# Altium integrated library WirelessCharger.IntLib: 31 symbols
Pins are listed as number, name and electrical type; pins without a type are passive.

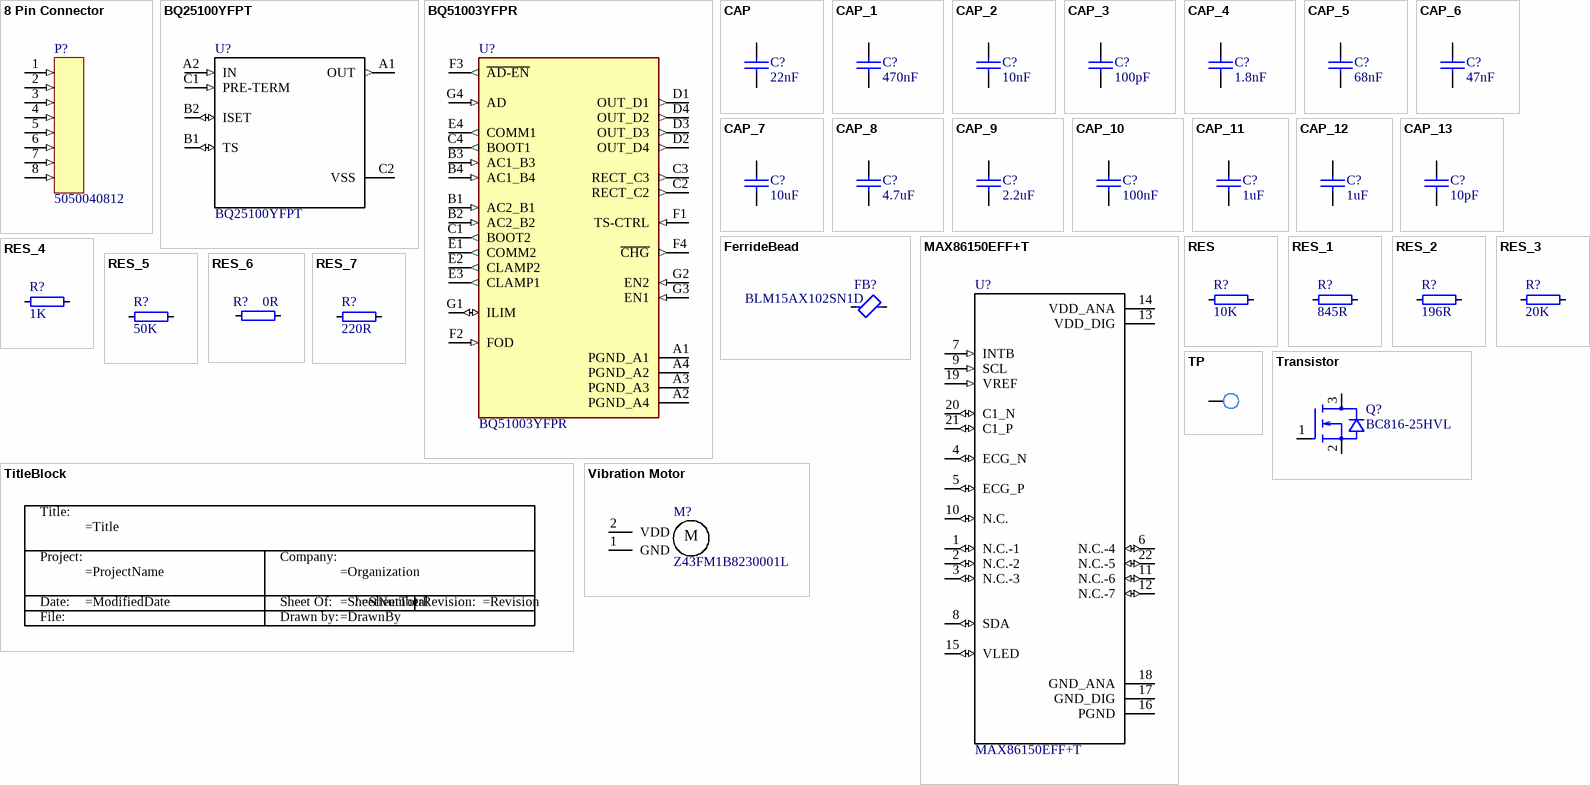
[diagram p0: symbols 8 Pin Connector to Vibration Motor]

## 8 Pin Connector
designator P?, comment 5050040812
Generic 8 pin connector, see footprint for MPN
footprint YCP-TWD12ACX-E8FPCYX-000X
footprint YCP-TWD12ACX-08FPEZX-000X
footprint B08B-JWPF-SK-R (JST 2x5 Automotive)
footprint 5050040812 (0.8mm height mated board to board connector)
pins: 1 (in), 2 (in), 3 (in), 4 (in), 5 (in), 6 (in), 7 (in), 8 (in)

## BQ25100YFPT
designator U?
Standalone 1-cell, 250-mA linear battery charger with 4.2-V charge voltage and prog. pre-charge 6-DSBGA 0 to 125; MF: Texas Instruments; DigiKey-Purchase-URL: https://snapeda.com/shop?store=DigiKey&id=251118; Mouser-Purchase-URL: https://snapeda.com/shop?store=Mouser&id=251118; SnapEDA_Link: https://www.snapeda.com/parts/BQ25100YFPT/Texas%20Instruments/view-part/251118/?ref=snap; Digi-Key_Part_Number: 296-38373-1-ND; MP: BQ25100YFPT; Value: *; Texas_Instruments-Purchase-URL: https://snapeda.com/shop?store=Texas+Instruments&id=251118; Package: DSBGA-6 Texas Instruments
footprint BQ25100YFP (Liion Charger)
pins: A1 OUT (out), A2 IN (in), B1 TS (io), B2 ISET (io), C1 PRE-TERM (in), C2 VSS (power)

## BQ51003YFPR
designator U?
BQ51003 Wireless power Receiver 28-DSBGA -40 to 85; Package: None; Value: *; MP: BQ51003YFPR; Availability: Unavailable; Price: None
footprint BQ51003
pins: A1 PGND_A1 (power), A2 PGND_A4 (power), A3 PGND_A3 (power), A4 PGND_A2 (power), B1 AC2_B1 (in), B2 AC2_B2 (in), B3 AC1_B3 (in), B4 AC1_B4 (in), C1 BOOT2 (out), C2 RECT_C2 (out), C3 RECT_C3 (out), C4 BOOT1 (out), D1 OUT_D1 (out), D2 OUT_D4 (out), D3 OUT_D3 (out), D4 OUT_D2 (out), E1 COMM2 (out), E2 CLAMP2 (out), E3 CLAMP1 (out), E4 COMM1 (out), F1 TS-CTRL (in), F2 FOD (in), F3 ~{AD-EN} (out), F4 ~{CHG} (out), G1 ILIM (io), G2 EN2 (in), G3 EN1 (in), G4 AD (in)

## CAP
designator C?, comment 22nF
Capacitor; Value: 100pF; Published: 8-Jun-2000; Revision: July-2002: Re-released for DXP Platform.; Publisher: Altium Limited
footprint C0603
footprint C0201
footprint C0402
footprint C0805
footprint Cap-Pol-Rad-18x31.5
footprint B32652A4104J
footprint C2220
footprint CAPSMT_62_F61
pins: 1, 2

## CAP_1
designator C?, comment 470nF
Capacitor; Value: 100pF; Published: 8-Jun-2000; Revision: July-2002: Re-released for DXP Platform.; Publisher: Altium Limited
footprint C0603
footprint C0201
footprint C0402
footprint C0805
footprint Cap-Pol-Rad-18x31.5
footprint B32652A4104J
footprint C2220
footprint CAPSMT_62_F61
pins: 1, 2

## CAP_2
designator C?, comment 10nF
Capacitor; Value: 100pF; Published: 8-Jun-2000; Revision: July-2002: Re-released for DXP Platform.; Publisher: Altium Limited
footprint C0603
footprint C0201
footprint C0402
footprint C0805
footprint Cap-Pol-Rad-18x31.5
footprint B32652A4104J
footprint C2220
footprint CAPSMT_62_F61
pins: 1, 2

## CAP_3
designator C?, comment 100pF
Capacitor; Published: 8-Jun-2000; Revision: July-2002: Re-released for DXP Platform.; Publisher: Altium Limited; Value: 100pF
footprint C0603
footprint C0201
footprint C0402
footprint C0805
footprint Cap-Pol-Rad-18x31.5
footprint B32652A4104J
footprint C2220
footprint CAPSMT_62_F61
pins: 1, 2

## CAP_4
designator C?, comment 1.8nF
Capacitor; Value: 100pF; Published: 8-Jun-2000; Revision: July-2002: Re-released for DXP Platform.; Publisher: Altium Limited
footprint C0603
footprint C0201
footprint C0402
footprint C0805
footprint Cap-Pol-Rad-18x31.5
footprint B32652A4104J
footprint C2220
footprint CAPSMT_62_F61
pins: 1, 2

## CAP_5
designator C?, comment 68nF
Capacitor; Value: 100pF; Published: 8-Jun-2000; Revision: July-2002: Re-released for DXP Platform.; Publisher: Altium Limited
footprint C0603
footprint C0201
footprint C0402
footprint C0805
footprint Cap-Pol-Rad-18x31.5
footprint B32652A4104J
footprint C2220
footprint CAPSMT_62_F61
pins: 1, 2

## CAP_6
designator C?, comment 47nF
Capacitor; Value: 100pF; Published: 8-Jun-2000; Revision: July-2002: Re-released for DXP Platform.; Publisher: Altium Limited
footprint C0603
footprint C0201
footprint C0402
footprint C0805
footprint Cap-Pol-Rad-18x31.5
footprint B32652A4104J
footprint C2220
footprint CAPSMT_62_F61
pins: 1, 2

## CAP_7
designator C?, comment 10uF
Capacitor; Value: 100pF; Published: 8-Jun-2000; Revision: July-2002: Re-released for DXP Platform.; Publisher: Altium Limited
footprint C0603
footprint C0201
footprint C0402
footprint C0805
footprint Cap-Pol-Rad-18x31.5
footprint B32652A4104J
footprint C2220
footprint CAPSMT_62_F61
pins: 1, 2

## CAP_8
designator C?, comment 4.7uF
Capacitor; Value: 100pF; Published: 8-Jun-2000; Revision: July-2002: Re-released for DXP Platform.; Publisher: Altium Limited
footprint C0603
footprint C0201
footprint C0402
footprint C0805
footprint Cap-Pol-Rad-18x31.5
footprint B32652A4104J
footprint C2220
footprint CAPSMT_62_F61
pins: 1, 2

## CAP_9
designator C?, comment 2.2uF
Capacitor; Value: 100pF; Published: 8-Jun-2000; Revision: July-2002: Re-released for DXP Platform.; Publisher: Altium Limited
footprint C0603
footprint C0201
footprint C0402
footprint C0805
footprint Cap-Pol-Rad-18x31.5
footprint B32652A4104J
footprint C2220
footprint CAPSMT_62_F61
pins: 1, 2

## CAP_10
designator C?, comment 100nF
Capacitor; Value: 100pF; Published: 8-Jun-2000; Revision: July-2002: Re-released for DXP Platform.; Publisher: Altium Limited
footprint C0603
footprint C0201
footprint C0402
footprint C0805
footprint Cap-Pol-Rad-18x31.5
footprint B32652A4104J
footprint C2220
footprint CAPSMT_62_F61
pins: 1, 2

## CAP_11
designator C?, comment 1uF
Capacitor; Value: 100pF; Published: 8-Jun-2000; Revision: July-2002: Re-released for DXP Platform.; Publisher: Altium Limited
footprint C0603
footprint C0201
footprint C0402
footprint C0805
footprint Cap-Pol-Rad-18x31.5
footprint B32652A4104J
footprint C2220
footprint CAPSMT_62_F61
pins: 1, 2

## CAP_12
designator C?, comment 1uF
Capacitor; Value: 100pF; Published: 8-Jun-2000; Revision: July-2002: Re-released for DXP Platform.; Publisher: Altium Limited
footprint C0603
footprint C0201
footprint C0402
pins: 1, 2

## CAP_13
designator C?, comment 10pF
Capacitor; Value: 100pF; Published: 8-Jun-2000; Revision: July-2002: Re-released for DXP Platform.; Publisher: Altium Limited
footprint C0603
footprint C0201
footprint C0402
pins: 1, 2

## FerrideBead
designator FB?, comment BLM15AX102SN1D
Ferrite Bead, 1000 Ohm @ 100MHz; Part Number: FB0402-120R@100M-500mA; Manufacturer: Murata; Manufacturer Part Number: BLM15AG121SN1D; Part number IPS: N.A.; Value: 120R/0.55A; Note: Chip EMIFIL Inductor Type Chip Ferrite Bead; Artikkelnr Noca: 33029317; Footprint Doc: 0402; LatestRevisionDate: 2014-01-10; Pin Count: 2; Publisher: Nordic Semiconductor; Published: 2011-11-14; ComponentLink1URL: *; ComponentLink1Description: Datasheet; ComponentLink2URL: *; ComponentLink2Description: Supplier link; HelpURL: http://search.murata.co.jp/Ceramy/image/img/PDF/ENG/L0110S0100BLM15A_SN.pdf
footprint IND0402
footprint IND0603
footprint IND0805R (Inductor 0805 reflow soldering)
pins: 1, 2

## MAX86150EFF+T
designator U?
Oximeter/Heart Rate Sensor IÂ²C Output; MF: Maxim Integrated; Package: OLGA-22 Maxim; MP: MAX86150EFF+; Availability: Unavailable; Price: None; Value: *; SnapEDA_Link: https://www.snapeda.com/parts/MAX86150EFF%2B/Maxim%20Integrated/view-part/680829/?ref=snap
footprint MAX86150EFF+ (Footprint not found)
pins: 1 N.C.-1 (io), 2 N.C.-2 (io), 3 N.C.-3 (io), 4 ECG_N (io), 5 ECG_P (io), 6 N.C.-4 (io), 7 INTB (in), 8 SDA (io), 9 SCL (in), 10 N.C. (io), 11 N.C.-6 (io), 12 N.C.-7 (io), 13 VDD_DIG (power), 14 VDD_ANA (power), 15 VLED (io), 16 PGND (power), 17 GND_DIG (power), 18 GND_ANA (power), 19 VREF (in), 20 C1_N (io), 21 C1_P (io), 22 N.C.-5 (io)

## RES
designator R?, comment 10K
Resistor, ±5%, 0.05W; Part Number: R0201-0R; Part number IPS: 00000003245; Value: 0R; Note: Chip Res 5%; Artikkelnr Noca: N.A.; Manufacturer: *; Manufacturer Part Number: *; ComponentLink1URL: *; ComponentLink1Description: Datasheet; ComponentLink2URL: *; ComponentLink2Description: Supplier link; HelpURL: *; Footprint Doc: 0201; LatestRevisionDate: 2017-11-09; Pin Count: 2; Publisher: Nordic Semiconductor; Published: 2014-11-13; Supplier 1: *; Supplier Part Number 1: *; Supplier 2: *; Supplier Part Number 2: *
footprint RES0603R
footprint RES1206R
footprint RES0402
footprint R0201
footprint RES0612 (1206 Wide (inverted))
pins: 1, 2

## RES_1
designator R?, comment 845R
Resistor, ±5%, 0.05W; Part Number: R0201-0R; Part number IPS: 00000003245; Value: 0R; Note: Chip Res 5%; Artikkelnr Noca: N.A.; Manufacturer: *; Manufacturer Part Number: *; ComponentLink1URL: *; ComponentLink1Description: Datasheet; ComponentLink2URL: *; ComponentLink2Description: Supplier link; HelpURL: *; Footprint Doc: 0201; LatestRevisionDate: 2017-11-09; Pin Count: 2; Publisher: Nordic Semiconductor; Published: 2014-11-13; Supplier 1: *; Supplier Part Number 1: *; Supplier 2: *; Supplier Part Number 2: *
footprint RES0603R
footprint RES1206R
footprint RES0402
footprint R0201
footprint RES0612 (1206 Wide (inverted))
pins: 1, 2

## RES_2
designator R?, comment 196R
Resistor, ±5%, 0.05W; Part Number: R0201-0R; Part number IPS: 00000003245; Value: 0R; Note: Chip Res 5%; Artikkelnr Noca: N.A.; Manufacturer: *; Manufacturer Part Number: *; ComponentLink1URL: *; ComponentLink1Description: Datasheet; ComponentLink2URL: *; ComponentLink2Description: Supplier link; HelpURL: *; Footprint Doc: 0201; LatestRevisionDate: 2017-11-09; Pin Count: 2; Publisher: Nordic Semiconductor; Published: 2014-11-13; Supplier 1: *; Supplier Part Number 1: *; Supplier 2: *; Supplier Part Number 2: *
footprint RES0603R
footprint RES1206R
footprint RES0402
footprint R0201
footprint RES0612 (1206 Wide (inverted))
pins: 1, 2

## RES_3
designator R?, comment 20K
Resistor, ±5%, 0.05W; Part Number: R0201-0R; Part number IPS: 00000003245; Value: 0R; Note: Chip Res 5%; Artikkelnr Noca: N.A.; Manufacturer: *; Manufacturer Part Number: *; ComponentLink1URL: *; ComponentLink1Description: Datasheet; ComponentLink2URL: *; ComponentLink2Description: Supplier link; HelpURL: *; Footprint Doc: 0201; LatestRevisionDate: 2017-11-09; Pin Count: 2; Publisher: Nordic Semiconductor; Published: 2014-11-13; Supplier 1: *; Supplier Part Number 1: *; Supplier 2: *; Supplier Part Number 2: *
footprint RES0603R
footprint RES1206R
footprint RES0402
footprint R0201
footprint RES0612 (1206 Wide (inverted))
pins: 1, 2

## RES_4
designator R?, comment 1K
Resistor, ±5%, 0.05W; Part Number: R0201-0R; Part number IPS: 00000003245; Value: 0R; Note: Chip Res 5%; Artikkelnr Noca: N.A.; Manufacturer: *; Manufacturer Part Number: *; ComponentLink1URL: *; ComponentLink1Description: Datasheet; ComponentLink2URL: *; ComponentLink2Description: Supplier link; HelpURL: *; Footprint Doc: 0201; LatestRevisionDate: 2017-11-09; Pin Count: 2; Publisher: Nordic Semiconductor; Published: 2014-11-13; Supplier 1: *; Supplier Part Number 1: *; Supplier 2: *; Supplier Part Number 2: *
footprint RES0603R
footprint RES1206R
footprint RES0402
footprint R0201
footprint RES0612 (1206 Wide (inverted))
pins: 1, 2

## RES_5
designator R?, comment 50K
Resistor, ±5%, 0.05W; Part Number: R0201-0R; Part number IPS: 00000003245; Value: 0R; Note: Chip Res 5%; Artikkelnr Noca: N.A.; Manufacturer: *; Manufacturer Part Number: *; ComponentLink1URL: *; ComponentLink1Description: Datasheet; ComponentLink2URL: *; ComponentLink2Description: Supplier link; HelpURL: *; Footprint Doc: 0201; LatestRevisionDate: 2017-11-09; Pin Count: 2; Publisher: Nordic Semiconductor; Published: 2014-11-13; Supplier 1: *; Supplier Part Number 1: *; Supplier 2: *; Supplier Part Number 2: *
footprint RES0603R
footprint RES1206R
footprint RES0402
footprint R0201
footprint RES0612 (1206 Wide (inverted))
pins: 1, 2

## RES_6
designator R?, comment 0R
Resistor, ±5%, 0.05W; Part Number: R0201-0R; Part number IPS: 00000003245; Note: Chip Res 5%; Artikkelnr Noca: N.A.; Manufacturer: *; Manufacturer Part Number: *; ComponentLink1URL: *; ComponentLink1Description: Datasheet; ComponentLink2URL: *; ComponentLink2Description: Supplier link; HelpURL: *; Footprint Doc: 0201; LatestRevisionDate: 2017-11-09; Pin Count: 2; Publisher: Nordic Semiconductor; Published: 2014-11-13; Value: 0R; Supplier 1: *; Supplier Part Number 1: *; Supplier 2: *; Supplier Part Number 2: *
footprint RES0603R
footprint RES1206R
footprint RES0402
footprint R0201
footprint RES0612 (1206 Wide (inverted))
pins: 1, 2

## RES_7
designator R?, comment 220R
Resistor, ±5%, 0.05W; Part Number: R0201-0R; Part number IPS: 00000003245; Value: 0R; Note: Chip Res 5%; Artikkelnr Noca: N.A.; Manufacturer: *; Manufacturer Part Number: *; ComponentLink1URL: *; ComponentLink1Description: Datasheet; ComponentLink2URL: *; ComponentLink2Description: Supplier link; HelpURL: *; Footprint Doc: 0201; LatestRevisionDate: 2017-11-09; Pin Count: 2; Publisher: Nordic Semiconductor; Published: 2014-11-13; Supplier 1: *; Supplier Part Number 1: *; Supplier 2: *; Supplier Part Number 2: *
footprint RES0603R
footprint RES1206R
footprint RES0402
footprint R0201
footprint RES0612 (1206 Wide (inverted))
pins: 1, 2

## TitleBlock
designator *?  (value not drawn)  (graphical)
text: Title:; Project:; Company:; Date:; Sheet Of:; /; Revision:; File:; Drawn by:

## TP
designator Coil?, comment DNP  (value not drawn)
footprint PowerPad
footprint TP_SMD_Ø1.0mm
footprint MountingHole
footprint smd tp
footprint MountingHole 5mm (5.2mm)
footprint TP_SMD_1.0mm (Footprint not found)
pins: 1

## Transistor
designator Q?, comment BC816-25HVL
N-Channel 20V 100mA _Ta_ 150mW _Ta_ Surface Mount VMT3; MF: Rohm; MP: RUM001L02T2CL; Value: *; SnapEDA_Link: https://www.snapeda.com/parts/RUM001L02T2CL/Rohm/view-part/531428/?ref=snap; Digi-Key_Part_Number: RUM001L02T2CLCT-ND; Digi-Key_Purchase_URL: https://www.digikey.com/product-detail/en/rohm-semiconductor/RUM001L02T2CL/RUM001L02T2CLCT-ND/4571412?utm_source=snapeda&utm_medium=aggregator&utm_campaign=symbol; Package: SOT-723 Rohm
footprint SOTFL3P40_120X120X55L30X32N
footprint SOT23-3 (SOT23, 5-Leads, Body 2.95x2.80mm, Pitch 0.95mm, IPC High Density)
pins: 1 G, 2 S, 3 D

## Vibration Motor
designator M?, comment Z43FM1B8230001L
SMD Vibration Motor / https://www.vibration-motor.com/cylindrical-vibrator-motors/smt-surface-mount-reflow/z43fm1b8230001l; ComponentLink1Description: Manufacturer; ComponentLink1URL: https://www.vibration-motor.com/cylindrical-vibrator-motors/smt-surface-mount-reflow/z43fm1b8230001l
footprint Z43FM1B8230001L (SMD Vibration Motor)
pins: 1 GND, 2 VDD
text: M